# EAGLE library part TPS61230DRCT (library nixiemisc)
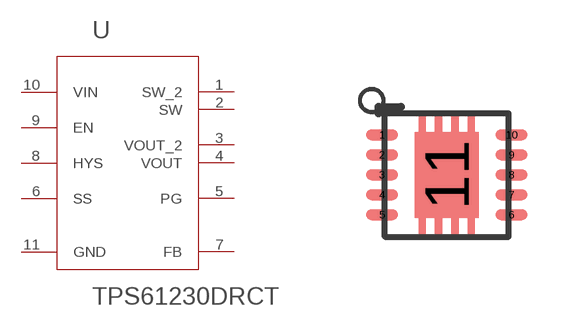
[diagram p13: symbol with the pads of DRC0010G; footprint DRC0010G]

Designator prefix U

## TPS61230DRCT  [DRC0010G]
1  SW_2  pwr
2  SW  pwr
3  VOUT_2  pwr
4  VOUT  pwr
5  PG  out
6  SS  in
7  FB  in
8  HYS  out
9  EN  in
10  VIN  pwr
11  GND  pwr

## Footprint DRC0010G (pad centres in mm)
smd 0.8 x 0.28: 1 -1.62,1; 2 -1.62,0.5; 3 -1.62,0; 4 -1.62,-0.5; 5 -1.62,-1; 6 1.62,-1; 7 1.62,-0.5; 8 1.62,0; 9 1.62,0.5; 10 1.62,1
smd 1.6 x 2.15: 11 0,0